# Altium integrated library Jumpers.IntLib: 18 symbols
Pins are listed as number, name and electrical type; pins without a type are passive.

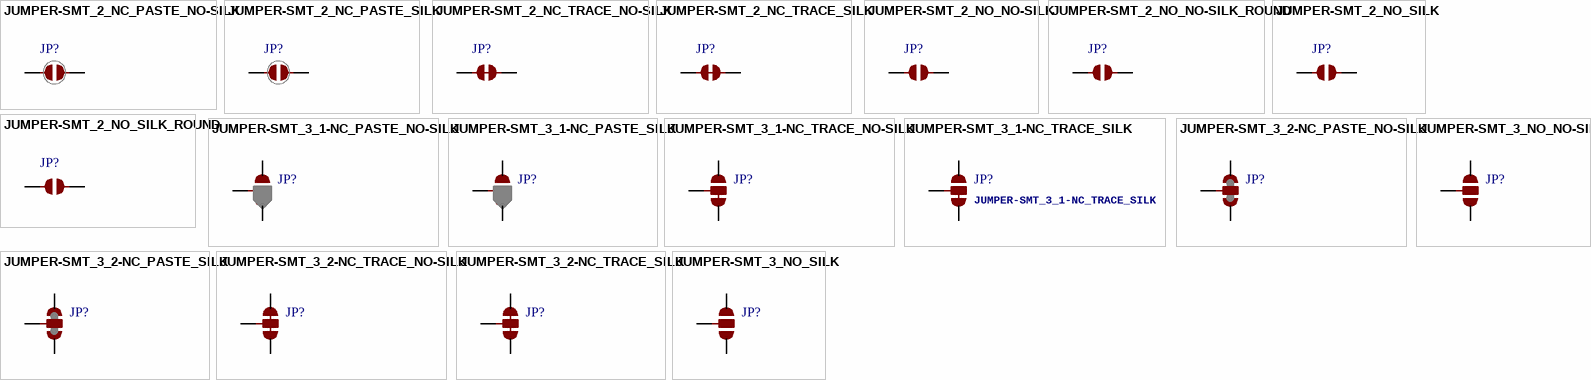
[diagram p0: symbols JUMPER-SMT_2_NC_PASTE_NO-SILK to JUMPER-SMT_3_NO_SILK]

## JUMPER-SMT_2_NC_PASTE_NO-SILK
designator JP?
footprint SMT-JUMPER_2_NC_PASTE_NO-SILK
pins: 1, 2

## JUMPER-SMT_2_NC_PASTE_SILK
designator JP?
footprint SMT-JUMPER_2_NC_PASTE_SILK
pins: 1, 2

## JUMPER-SMT_2_NC_TRACE_NO-SILK
designator JP?
footprint SMT-JUMPER_2_NC_TRACE_NO-SILK
pins: 1, 2

## JUMPER-SMT_2_NC_TRACE_SILK
designator JP?
footprint SMT-JUMPER_2_NC_TRACE_SILK
pins: 1, 2

## JUMPER-SMT_2_NO_NO-SILK
designator JP?
footprint SMT-JUMPER_2_NO_NO-SILK
pins: 1, 2

## JUMPER-SMT_2_NO_NO-SILK_ROUND
designator JP?
footprint SMT-JUMPER_2_NO_NO-SILK_ROUND
pins: 1, 2

## JUMPER-SMT_2_NO_SILK
designator JP?
footprint SMT-JUMPER_2_NO_SILK
pins: 1, 2

## JUMPER-SMT_2_NO_SILK_ROUND
designator JP?
footprint SMT-JUMPER_2_NO_SILK_ROUND
pins: 1, 2

## JUMPER-SMT_3_1-NC_PASTE_NO-SILK
designator JP?
footprint SMT-JUMPER_3_1-NC_PASTE_NO-SILK
pins: 1, 2, 3

## JUMPER-SMT_3_1-NC_PASTE_SILK
designator JP?
footprint SMT-JUMPER_3_1-NC_PASTE_SILK
pins: 1, 2, 3

## JUMPER-SMT_3_1-NC_TRACE_NO-SILK
designator JP?
footprint SMT-JUMPER_3_1-NC_TRACE_NO-SILK
pins: 1, 2, 3

## JUMPER-SMT_3_1-NC_TRACE_SILK
designator JP?
footprint SMT-JUMPER_3_1-NC_TRACE_SILK
pins: 1, 2, 3

## JUMPER-SMT_3_2-NC_PASTE_NO-SILK
designator JP?
footprint SMT-JUMPER_3_2-NC_PASTE_NO-SILK
pins: 1, 2, 3

## JUMPER-SMT_3_2-NC_PASTE_SILK
designator JP?
footprint SMT-JUMPER_3_2-NC_PASTE_SILK
pins: 1, 2, 3

## JUMPER-SMT_3_2-NC_TRACE_NO-SILK
designator JP?
footprint SMT-JUMPER_3_2-NC_TRACE_NO-SILK
pins: 1, 2, 3

## JUMPER-SMT_3_2-NC_TRACE_SILK
designator JP?
footprint SMT-JUMPER_3_2-NC_TRACE_SILK
pins: 1, 2, 3

## JUMPER-SMT_3_NO_NO-SILK
designator JP?
footprint SMT-JUMPER_3_NO_NO-SILK
pins: 1, 2, 3

## JUMPER-SMT_3_NO_SILK
designator JP?
footprint SMT-JUMPER_3_NO_SILK
pins: 1, 2, 3